# Altium schematic symbol library 0900-4-15-20-75-14-11-0.Schlib: 1 symbol
Pins are listed as number, name and electrical type; pins without a type are passive.

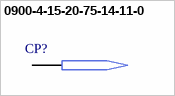
[diagram p0: symbol 0900-4-15-20-75-14-11-0]

## 0900-4-15-20-75-14-11-0
designator CP?  (value not drawn)
pins: 1